# Altium footprint library SOT.PcbLib: 25 footprints (part 2 of 2)
Each footprint in its own frame and in the unit in brackets; x right, y up, seen from the top. Pads: shape width x height; smd on the part's side, far side on the other; paste and mask are expansions set on the pad; w line width, h text height; cw(c..) or ccw(c..) is an arc to the next point about the centre after c.
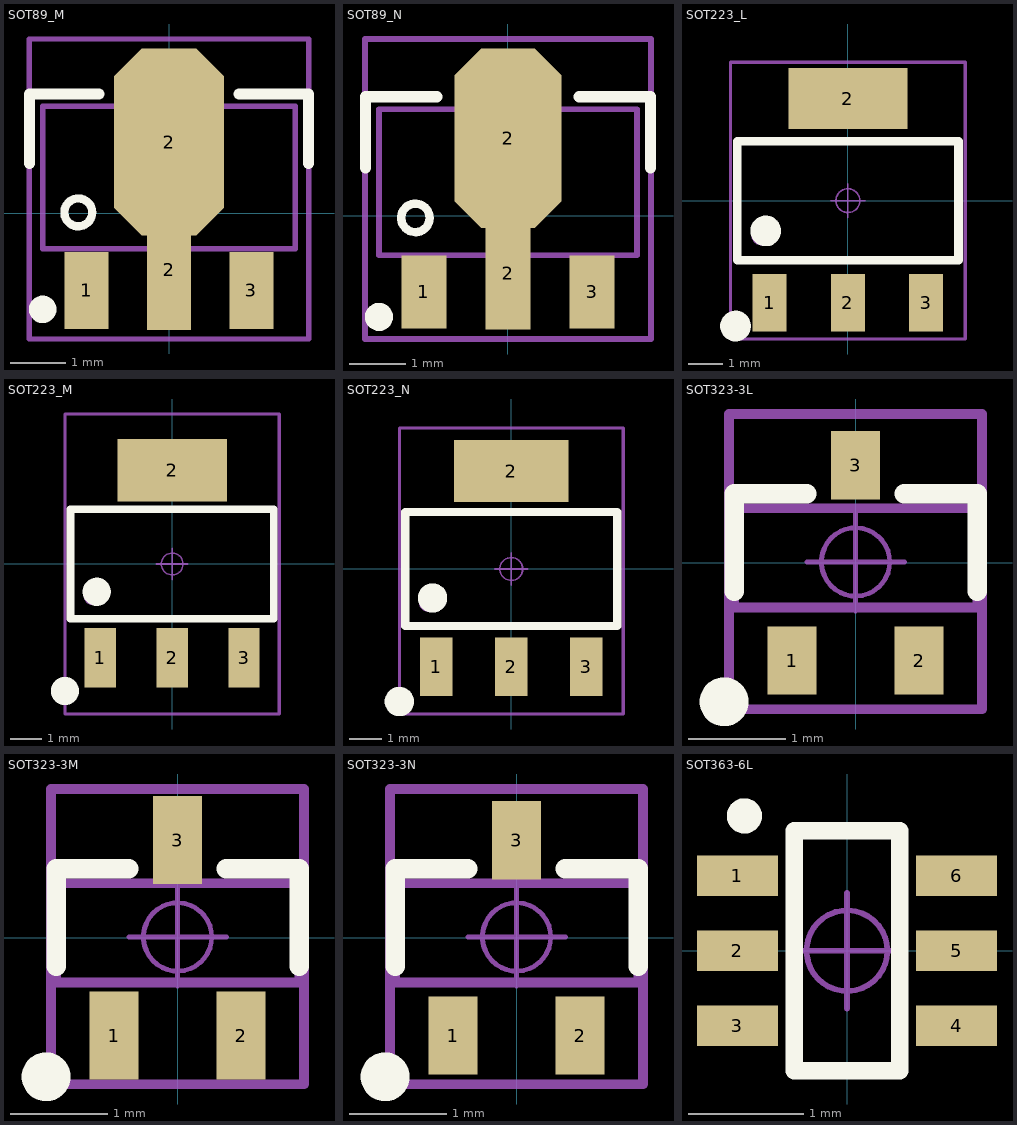
[diagram p1: the footprints below, top view; thin cyan lines are the x and y axes]

## SOT89_M [mm] "4.6x4.3x1.6mm(长宽高)"
height 1.6
pads (4):
  rect 0.8x1.4 smd: 1(-1.5,-1.4) 3(1.5,-1.4)
  rect 0.8x2.2 smd: 2(0,-1.022)
  oct 2x3.4 smd: 2(0,1.299)
Top Overlay:
  circle w0.15: c-1.651,0.019 r0.254
  circle w0.25: c-2.3,-1.746 r0.125
  lines w0.2: -2.54,0.908 -2.54,2.178 -1.27,2.178 ; 1.27,2.178 2.54,2.178 2.54,0.908
Mechanical 13:
  circle w0.1: c-1.651,0.019 r0.25
  lines w0.1: -2.3,-0.646 -2.3,1.954 2.3,1.954 2.3,-0.646 -2.3,-0.646
Mechanical 15:
  circle w0.05: c0,0.654 r0.35
  lines w0.05: -0.5,0.654 0.5,0.654 ; 0,0.154 0,1.154
  lines w0.1: -2.54,-2.286 2.54,-2.286 2.54,3.175 -2.54,3.175 -2.54,-2.286
3D body "SOT89.STEP": height 1.6, standoff 0.04, extent -2.3,-1.746 2.3,2.554

## SOT89_N [mm] "4.6x4.3x1.6mm(长宽高)"
height 1.6
pads (4):
  rect 0.8x1.3 smd: 1(-1.5,-1.357) 3(1.5,-1.357)
  rect 0.8x2 smd: 2(0,-1.03)
  oct 1.9x3.2 smd: 2(0,1.383)
Top Overlay:
  circle w0.25: c-2.3,-1.805 r0.125
  circle w0.15: c-1.651,-0.04 r0.254
  lines w0.2: -2.54,0.849 -2.54,2.119 -1.27,2.119 ; 1.27,2.119 2.54,2.119 2.54,0.849
Mechanical 13:
  circle w0.1: c-1.651,-0.04 r0.25
  lines w0.1: -2.3,-0.705 2.3,-0.705 2.3,1.895 -2.3,1.895 -2.3,-0.705
Mechanical 15:
  circle w0.05: c0,0.595 r0.35
  lines w0.05: -0.5,0.595 0.5,0.595 ; 0,0.095 0,1.095
  lines w0.1: -2.55,-2.199 -2.55,3.15 2.55,3.15 2.55,-2.199 -2.55,-2.199
3D body "SOT89.STEP": height 1.6, standoff 0.04, extent -2.3,-1.805 2.3,2.495

## SOT223_L [mm] "6.4x7x1.6mm(长宽高)"
height 1.7
pads (4):
  rect 1x1.7 smd: 1(-2.3,-3) 2(0,-3) 3(2.3,-3)
  rect 3.5x1.8 smd: 2(0,3)
Top Overlay:
  circle w0.5: c-2.413,-0.889 r0.2
  circle w0.5: c-3.302,-3.683 r0.2
  lines w0.25: -3.25,-1.75 -3.25,1.75 3.25,1.75 3.25,-1.75 -3.25,-1.75
Mechanical 13:
  circle w0.1: c-2.536,-1.016 r0.25
  lines w0.1: -3.25,-1.75 -3.25,1.75 3.25,1.75 3.25,-1.75 -3.25,-1.75
Mechanical 15:
  circle w0.05: c0,0 r0.35
  lines w0.05: -0.5,0 0.5,0 ; 0,-0.5 0,0.5
  lines w0.1: -3.45,-4.064 -3.45,4.064 3.45,4.064 3.45,-4.064 -3.45,-4.064
3D body "SOT223.STEP": height 1.65, standoff -0.02, extent -3.25,-3.508 3.25,3.508

## SOT223_M [mm] "6.4x7x1.6mm(长宽高)"
height 1.7
pads (4):
  rect 1x1.9 smd: 1(-2.3,-3) 2(0,-3) 3(2.3,-3)
  rect 3.5x2 smd: 2(0,3)
Top Overlay:
  circle w0.5: c-3.429,-4.064 r0.2
  circle w0.5: c-2.413,-0.889 r0.2
  lines w0.25: -3.25,-1.75 3.25,-1.75 3.25,1.75 -3.25,1.75 -3.25,-1.75
Mechanical 13:
  circle w0.1: c-2.536,-1.016 r0.25
  lines w0.1: -3.25,-1.75 -3.25,1.75 3.25,1.75 3.25,-1.75 -3.25,-1.75
Mechanical 15:
  circle w0.05: c0,0 r0.35
  lines w0.05: -0.5,0 0.5,0 ; 0,-0.5 0,0.5
  lines w0.1: -3.429,-4.8 -3.429,4.8 3.429,4.8 3.429,-4.8 -3.429,-4.8
3D body "SOT223.STEP": height 1.65, standoff -0.02, extent -3.25,-3.508 3.25,3.508

## SOT223_N [mm] "6.4x7x1.6mm(长宽高)"
height 1.7
pads (4):
  rect 1x1.8 smd: 1(-2.3,-3) 2(0,-3) 3(2.3,-3)
  rect 3.5x1.9 smd: 2(0,3)
Top Overlay:
  circle w0.5: c-3.429,-4.064 r0.2
  circle w0.5: c-2.413,-0.889 r0.2
  lines w0.25: -3.25,-1.75 3.25,-1.75 3.25,1.75 -3.25,1.75 -3.25,-1.75
Mechanical 13:
  circle w0.1: c-2.536,-1.016 r0.25
  lines w0.1: -3.25,-1.75 -3.25,1.75 3.25,1.75 3.25,-1.75 -3.25,-1.75
Mechanical 15:
  circle w0.05: c0,0 r0.35
  lines w0.05: -0.5,0 0.5,0 ; 0,-0.5 0,0.5
  lines w0.1: -3.429,-4.445 -3.429,4.318 3.429,4.318 3.429,-4.445 -3.429,-4.445
3D body "SOT223.STEP": height 1.65, standoff -0.02, extent -3.25,-3.508 3.25,3.508

## SOT323-3L [mm] "2x2.2x0.9mm(长宽高)"
height 0.9
pads (3):
  rect 0.5x0.7 smd: 1(-0.65,-1) 2(0.65,-1) 3(0,1)
Top Overlay:
  circle w0.25: c-1.346,-1.422 r0.125
  lines w0.2: -1.245,-0.291 -1.245,0.709 -0.5,0.709 ; 0.5,0.709 1.245,0.709 1.245,-0.291
Mechanical 13:
  lines w0.1: -1.245,-0.457 1.245,-0.457 1.245,0.559 -1.245,0.559 -1.245,-0.457
Mechanical 15:
  circle w0.05: c0,0.009 r0.35
  lines w0.05: -0.5,0.009 0.5,0.009 ; 0,-0.491 0,0.509
  lines w0.1: -1.295,-1.499 1.295,-1.499 1.295,1.524 -1.295,1.524 -1.295,-1.499
3D body "User Library-SOT323 (SC70-3)-1.STEP": height 1.1, standoff 0, extent -1.092,-1.148 1.108,1.097

## SOT323-3M [mm] "2x2.2x0.9mm(长宽高)"
height 0.9
pads (3):
  rect 0.5x0.9 smd: 1(-0.65,-1) 2(0.65,-1) 3(0,1)
Top Overlay:
  circle w0.25: c-1.346,-1.422 r0.125
  lines w0.2: -1.245,-0.291 -1.245,0.709 -0.5,0.709 ; 0.5,0.709 1.245,0.709 1.245,-0.291
Mechanical 13:
  lines w0.1: -1.245,-0.457 1.245,-0.457 1.245,0.559 -1.245,0.559 -1.245,-0.457
Mechanical 15:
  circle w0.05: c0,0.009 r0.35
  lines w0.05: -0.5,0.009 0.5,0.009 ; 0,-0.491 0,0.509
  lines w0.1: -1.295,-1.499 1.295,-1.499 1.295,1.524 -1.295,1.524 -1.295,-1.499
3D body "User Library-SOT323 (SC70-3)-1.STEP": height 1.1, standoff 0, extent -1.092,-1.148 1.108,1.097

## SOT323-3N [mm] "2x2.2x0.9mm(长宽高)"
height 0.9
pads (3):
  rect 0.5x0.8 smd: 1(-0.65,-1) 2(0.65,-1) 3(0,1)
Top Overlay:
  circle w0.25: c-1.346,-1.422 r0.125
  lines w0.2: -1.245,-0.291 -1.245,0.709 -0.5,0.709 ; 0.5,0.709 1.245,0.709 1.245,-0.291
Mechanical 13:
  lines w0.1: -1.245,-0.457 -1.245,0.559 1.245,0.559 1.245,-0.457 -1.245,-0.457
Mechanical 15:
  circle w0.05: c0,0.009 r0.35
  lines w0.05: -0.5,0.009 0.5,0.009 ; 0,-0.491 0,0.509
  lines w0.1: -1.295,-1.499 -1.295,1.524 1.295,1.524 1.295,-1.499 -1.295,-1.499
3D body "User Library-SOT323 (SC70-3)-1.STEP": height 1.1, standoff 0, extent -1.092,-1.148 1.108,1.097

## SOT363-6L [mm] "2.0x2.1x1.1mm(长宽高)"
height 1.45
pads (6):
  rect 0.7x0.35 smd: 1(-0.95,0.65) 2(-0.95,0) 3(-0.95,-0.65) 4(0.95,-0.65) 5(0.95,0) 6(0.95,0.65)
Top Overlay:
  circle w0.152: c-0.889,1.168 r0.076
  lines w0.152: -0.457,-1.041 -0.457,1.041 0.457,1.041 0.457,-1.041 -0.457,-1.041
Mechanical 15:
  circle w0.05: c0,0 r0.35
  lines w0.05: -0.5,0 0.5,0 ; 0,-0.5 0,0.5
3D body "SW3dPS-SW3dPS-SOT363.STEP": height 1, standoff 0.01, extent -1.05,-1 1.05,1